# EAGLE library part J1962_OBD_PADS_? (library J1962)
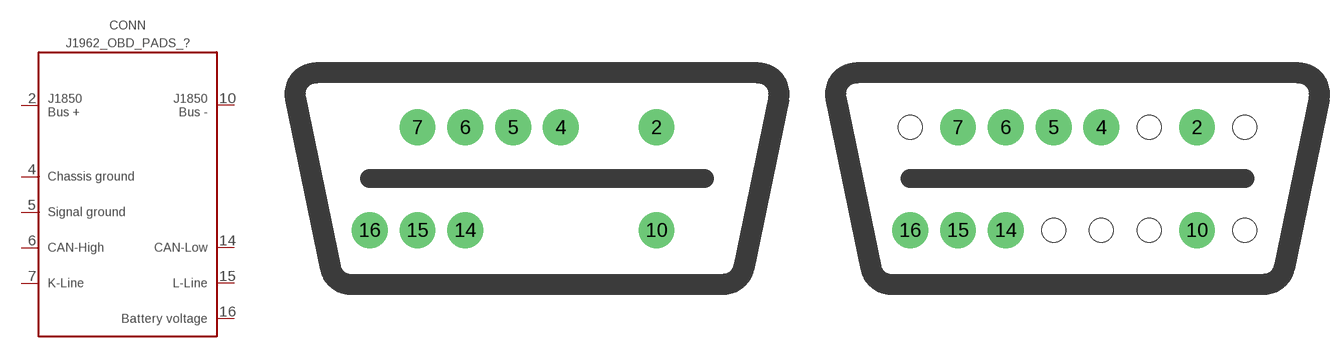
[diagram p1: symbol with the pads of J1962_OBD_PADS_OBD_HOLES; footprints J1962_OBD_PADS_OBD_HOLES, J1962_OBD_PADS_ALL_HOLES]

Designator prefix CONN

## J1962_OBD_PADS_OBD_HOLES  [J1962_OBD_PADS_OBD_HOLES]
2  2
4  4
5  5
6  6
7  7
10  10
14  14
15  15
16  16

## J1962_OBD_PADS_ALL_HOLES  [J1962_OBD_PADS_ALL_HOLES]
Pads as for J1962_OBD_PADS_OBD_HOLES

## Footprint J1962_OBD_PADS_OBD_HOLES (pad centres in mm)
drill 2 pad 3: 2 10,4.3; 4 2,4.3; 5 -2,4.3; 6 -6,4.3; 7 -10,4.3; 10 10,-4.3; 14 -6,-4.3; 15 -10,-4.3; 16 -14,-4.3

## Footprint J1962_OBD_PADS_ALL_HOLES (pad centres in mm)
drill 2 pad 3: 2 10,4.3; 4 2,4.3; 5 -2,4.3; 6 -6,4.3; 7 -10,4.3; 10 10,-4.3; 14 -6,-4.3; 15 -10,-4.3; 16 -14,-4.3
hole 2 at -14,4.3
hole 2 at 6,4.3
hole 2 at 6,-4.3
hole 2 at 2,-4.3
hole 2 at -2,-4.3
hole 2 at 14,-4.3
hole 2 at 14,4.3